# Altium footprint library AutoTimer.PcbLib: 12 footprints
Each footprint in its own frame and in the unit in brackets; x right, y up, seen from the top. Pads: shape width x height; smd on the part's side, far side on the other; paste and mask are expansions set on the pad; w line width, h text height; cw(c..) or ccw(c..) is an arc to the next point about the centre after c.
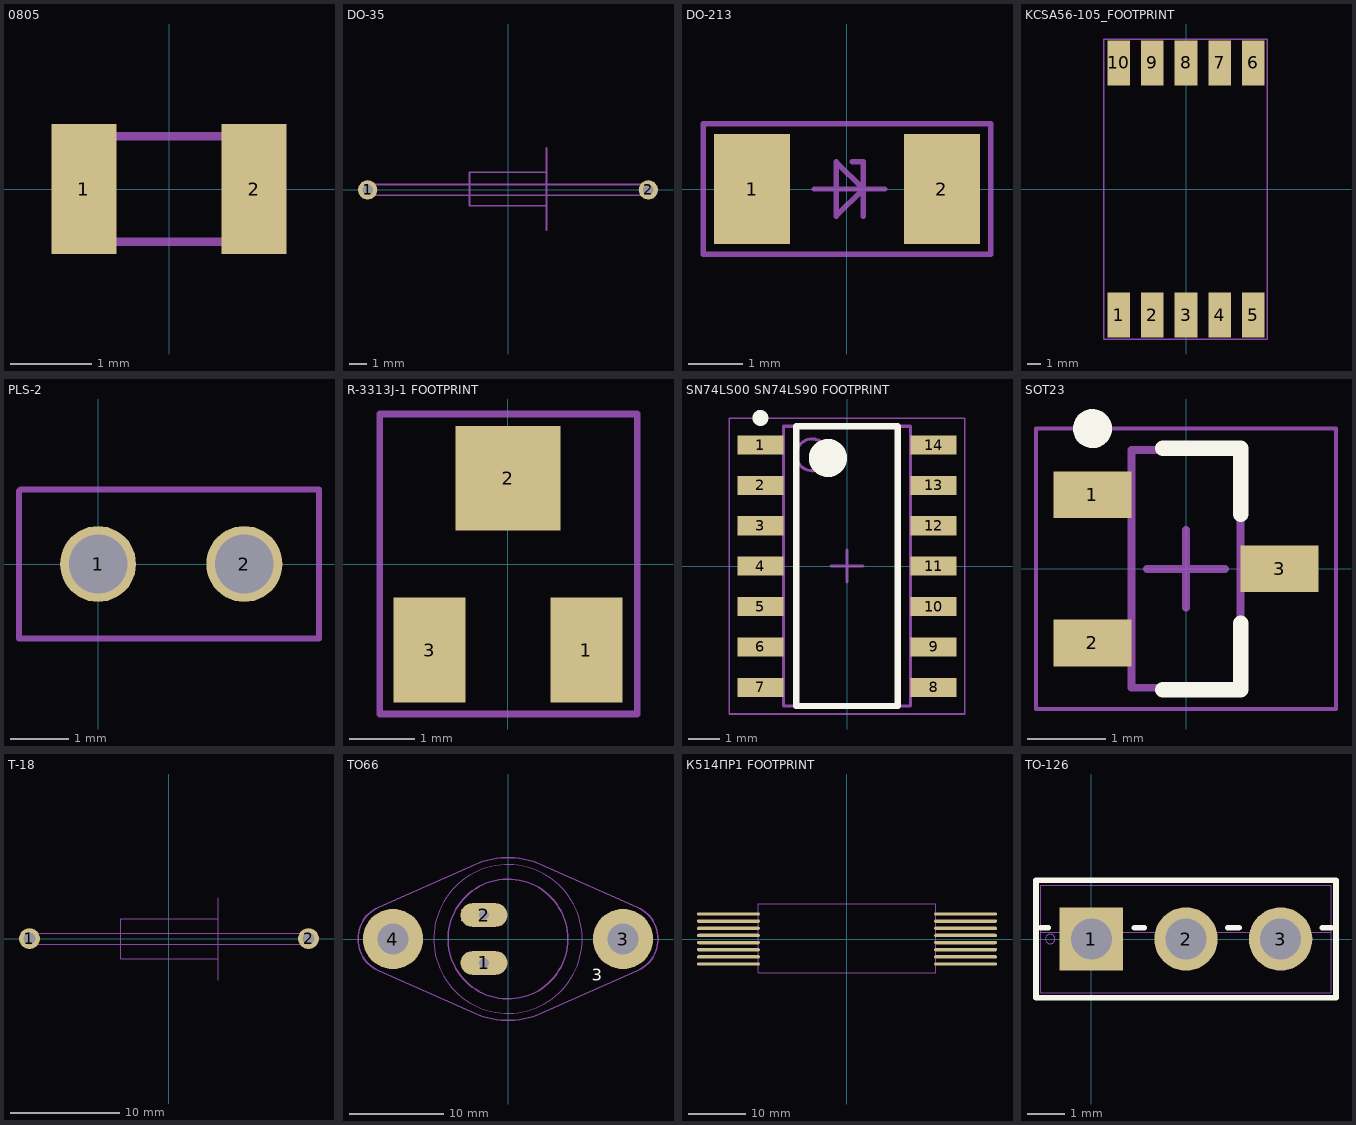
[diagram p0: the footprints below, top view; thin cyan lines are the x and y axes]

## 0805 [mm]
pads (2):
  rect 0.8x1.6 smd: 1(-1.05,0) 2(1.05,0)
Top Assembly:
  lines w0.1: -1.05,-0.65 -1.05,0.65 1.05,0.65 1.05,-0.65 -1.05,-0.65
3D body: height 0.4, standoff 0, extent -1.05,-0.65 1.05,0.65

## DO-35 [mm]
pads (2):
  round 1.1 hole 0.6: 1(-8,0) 2(8,0)
Top Assembly:
  lines w0.1: -7.9,-0.3 7.9,-0.3 ; -7.9,0.3 7.9,0.3 ; 2.2,-2.3 2.2,-0.9 ; 2.2,2.4 2.2,1 ; 2.2,-0.9 -2.2,-0.9 -2.2,1 2.2,1 ; 2.2,-0.9 2.2,1
3D body: height 1.9, standoff 0, extent -2.2,-0.9 2.2,1

## DO-213 [mm]
pads (2):
  rect 1.4x2.03 smd: 1(-1.75,0) 2(1.75,0)
Top Assembly:
  lines w0.1: 0.1,0.5 0.3,0.5 ; 0.7,0 -0.6,0 0.3,0 ; 0.3,0 0.3,-0.5 0.3,0.5 ; 0.3,0 0.3,0.5 ; 0.3,0 -0.2,-0.5 -0.2,0.5 0.3,0 ; -2.65,-1.2 2.65,-1.2 2.65,1.2 -2.65,1.2 -2.65,-1.2
3D body: height 1.7, standoff 0, extent -2.65,-1.2 2.65,1.2

## KCSA56-105_FOOTPRINT [mm]
pads (10):
  rect 1.7x3.4 smd: 1(-5.08,-9.5) 2(-2.54,-9.5) 3(0,-9.5) 4(2.54,-9.5) 5(5.08,-9.5) 6(5.08,9.5) 7(2.54,9.5) 8(0,9.5) 9(-2.54,9.5) 10(-5.08,9.5)
Top Assembly:
  lines w0.1: -6.18,-11.3 -6.18,11.3 6.12,11.3 6.12,-11.3 -6.18,-11.3
  text "1" at -5.246,-6.996 h1.52
3D body: height 3.75, standoff 0, extent -6.18,-11.3 6.12,11.3

## PLS-2 [mm]
pads (2):
  round 1.3 hole 1: 1(0,0) 2(2.5,0)
Top Assembly:
  lines w0.1: -1.35,-1.275 3.775,-1.275 3.775,1.275 -1.325,1.275 -1.35,1.25 -1.35,-1.275
3D body "pls-2.stp": height 8.47, standoff -3.07, extent -1.31,-1.27 3.77,1.27

## R-3313J-1 FOOTPRINT [mm]
pads (3):
  rect 1.1x1.6 smd: 1(1.195,-1.31) 3(-1.195,-1.31)
  rect 1.6x1.6 smd: 2(0,1.31)
Top Assembly:
  lines w0.1: -1.955,-2.285 1.97,-2.285 1.97,2.29 -1.955,2.29 -1.955,-2.285
3D body: height 2.2, standoff 0, extent -1.955,-2.285 1.97,2.29

## SN74LS00 SN74LS90 FOOTPRINT [mm] "SOIC, 14-Leads, Body 8,65x3,90mm, Pitch 1,27mm, IPC Medium Density"
height 1.75
pads (14):
  rect 1.45x0.6 smd: 1(-2.725,3.81) 2(-2.725,2.54) 3(-2.725,1.27) 4(-2.725,0) 5(-2.725,-1.27) 6(-2.725,-2.54) 7(-2.725,-3.81) 8(2.725,-3.81) 9(2.725,-2.54) 10(2.725,-1.27) 11(2.725,0) 12(2.725,1.27) 13(2.725,2.54) 14(2.725,3.81)
Top Overlay:
  circle w0.25: c-2.725,4.66 r0.125
  circle w0.6: c-0.6,3.4 r0.3
  lines w0.2: -1.6,-4.4 -1.6,4.4 1.6,4.4 1.6,-4.4 -1.6,-4.4
Top Assembly:
  circle w0.1: c-1.1,3.5 r0.5
  lines w0.1: -2,-4.4 -2,4.4 2,4.4 2,-4.4 -2,-4.4
Mechanical 15:
  lines w0.05: -3.7,-4.65 -3.7,4.65 3.7,4.65 3.7,-4.65 -3.7,-4.65
  lines w0.1: -0.5,0 0.5,0 ; 0,-0.5 0,0.5
3D body: height 1.75, standoff 0.25, extent -2,-4.4 2,4.4

## SOT23 [mm] "SOT23, 3-Leads, Body 2,86x2,45mm, Pitch 0,95mm, IPC Medium Density"
height 1.02
pads (3):
  rect 1x0.6 smd: 1(-1.2,0.95) 2(-1.2,-0.95) 3(1.2,0)
Top Overlay:
  circle w0.25: c-1.2,1.8 r0.125
  lines w0.2: -0.3,-1.55 0.7,-1.55 0.7,-0.7 ; -0.3,1.55 0.7,1.55 0.7,0.7
Top Assembly:
  lines w0.1: -0.7,-1.525 0.7,-1.525 0.7,1.525 -0.7,1.525 -0.7,-1.525
Mechanical 15:
  lines w0.05: -1.925,-1.8 1.925,-1.8 1.925,1.8 -1.925,1.8 -1.925,-1.8
  lines w0.1: -0.5,0 0.5,0 ; 0,-0.5 0,0.5
3D body: height 1.02, standoff 0.02, extent -0.7,-1.525 0.7,1.525

## T-18 [mm]
pads (2):
  round 1.9 hole 1.1: 1(-12.7,0) 2(12.7,0)
Top Assembly:
  lines w0.1: 4.5,-3.77 4.5,-1.9 ; 4.5,1.83 -4.39,1.83 -4.39,-1.765 -4.39,-1.85 4.5,-1.85 4.5,1.83 ; 4.5,1.83 4.5,3.7 ; 4.5,3.7 4.5,3.7 ; -12.7,-0.5 -12.7,0.5 12.7,0.5 12.7,-0.5 -12.7,-0.5
3D body: height 3.68, standoff 0, extent -4.445,-1.84 4.445,1.84

## TO66 [mm]
pads (4):
  oval 5x2.5 hole 1.1: 1(-2.54,-2.54) 2(-2.54,2.54)
  round 6.4 hole 3.3: 3(12.192,0) 4(-12.192,0)
Top Overlay:
  text "2" at -5.08,1.905 h1.27
  text "3" at 8.89,-4.445 h1.27
  text "1" at -5.08,-3.175 h1.27
Top Assembly:
  circle w0.152: c0,0 r6.35
  circle w0.051: c0,0 r7.874
  lines w0.152: -13.716,-3.365 cw(c-12.218,0) -13.716,3.364 ; -13.711,-3.367 -3.501,-7.895 ; -13.711,3.367 -3.501,7.895 ; -3.512,-7.89 ccw(c0,0) 3.513,-7.89 ; -3.512,7.89 cw(c0,0) 3.513,7.89 ; 3.501,-7.895 13.711,-3.367 ; 3.501,7.895 13.711,3.367 ; 13.716,-3.365 ccw(c12.218,0) 13.716,3.364
Top 3D Body:
  lines w0.1: -15.175,2.458 -15.174,2.457 ; -8.001,-0.025 -7.976,0
Mechanical 13:
  circle w0.152: c12.192,0 r1.905
  circle w0.152: c-12.192,0 r1.905
3D body: height 8.6, standoff 0, extent -7.874,-7.874 7.874,7.874
3D body: height 1.91, standoff 0, extent -15.901,-8.637 15.901,8.637

## К514ПР1 FOOTPRINT [mm]
pads (16):
  oval 11x0.6 smd: 1(20.75,-4.375) 2(20.75,-3.125) 3(20.75,-1.875) 4(20.75,-0.625) 5(20.75,0.625) 6(20.75,1.875) 7(20.75,3.125) 8(20.75,4.375) 9(-20.75,4.375) 10(-20.75,3.125) 11(-20.75,1.875) 12(-20.75,0.625) 13(-20.75,-0.625) 14(-20.75,-1.875) 15(-20.75,-3.125) 16(-20.75,-4.375)
Top Assembly:
  lines w0.1: 15.45,4.725 15.5,4.675 ; -15.5,-5.875 -15.5,6.125 15.5,6.125 15.5,-5.875 -15.5,-5.875
  text "1" at 13.254,-5.246 h1.52
3D body: height 2.5, standoff -1, extent -15.5,-5.875 15.5,6.125

## ТО-126 [mm]
pads (3):
  rect 1.7x1.7 hole 1.1 mask+0: 1(0,0)
  round 1.7 hole 1.1 mask+0: 2(2.54,0)
  round 1.7 / inner round 1.651 / far side round 1.651 hole 1.1 mask+0: 3(5.08,0)
Top Overlay:
  lines w0.152: -1.359,0.305 -1.158,0.305 ; 1.158,0.305 1.423,0.305 ; 3.657,0.305 3.963,0.305 ; 6.197,0.305 6.439,0.305 ; -1.486,-1.575 -1.486,1.575 6.566,1.575 6.566,-1.575 -1.486,-1.575
Top Assembly:
  circle w0: c-1.105,0 r0.127
  lines w0.025: -1.359,0.178 6.439,0.178 ; -1.359,-1.448 -1.359,1.448 6.439,1.448 6.439,-1.448 -1.359,-1.448
Mechanical 7:
3D body: height 0.25, standoff 0, extent 0,0 0.254,0.254
3D body "SOT-32_STM.step": height 8.89, standoff -6.1, extent -1.359,-1.448 6.439,1.448